# Altium schematic symbol library TMP235AEDBZRQ1.SchLib: 1 symbol
Pins are listed as number, name and electrical type; pins without a type are passive.

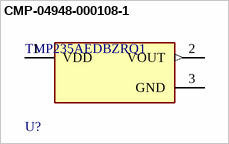
[diagram p0: symbol CMP-04948-000108-1]

## CMP-04948-000108-1
designator U?, comment TMP235AEDBZRQ1
IC TEMP SENSOR
footprint FP-DBZ0003A-MFG
footprint FP-DBZ0003A-IPC_A
footprint FP-DBZ0003A-IPC_B
footprint FP-DBZ0003A-IPC_C
pins: 1 VDD (power), 2 VOUT (out), 3 GND (power)